# Altium footprint library PCB1.PcbLib: 24 footprints (part 1 of 2)
Each footprint in its own frame and in the unit in brackets; x right, y up, seen from the top. Pads: shape width x height; smd on the part's side, far side on the other; paste and mask are expansions set on the pad; w line width, h text height; cw(c..) or ccw(c..) is an arc to the next point about the centre after c.
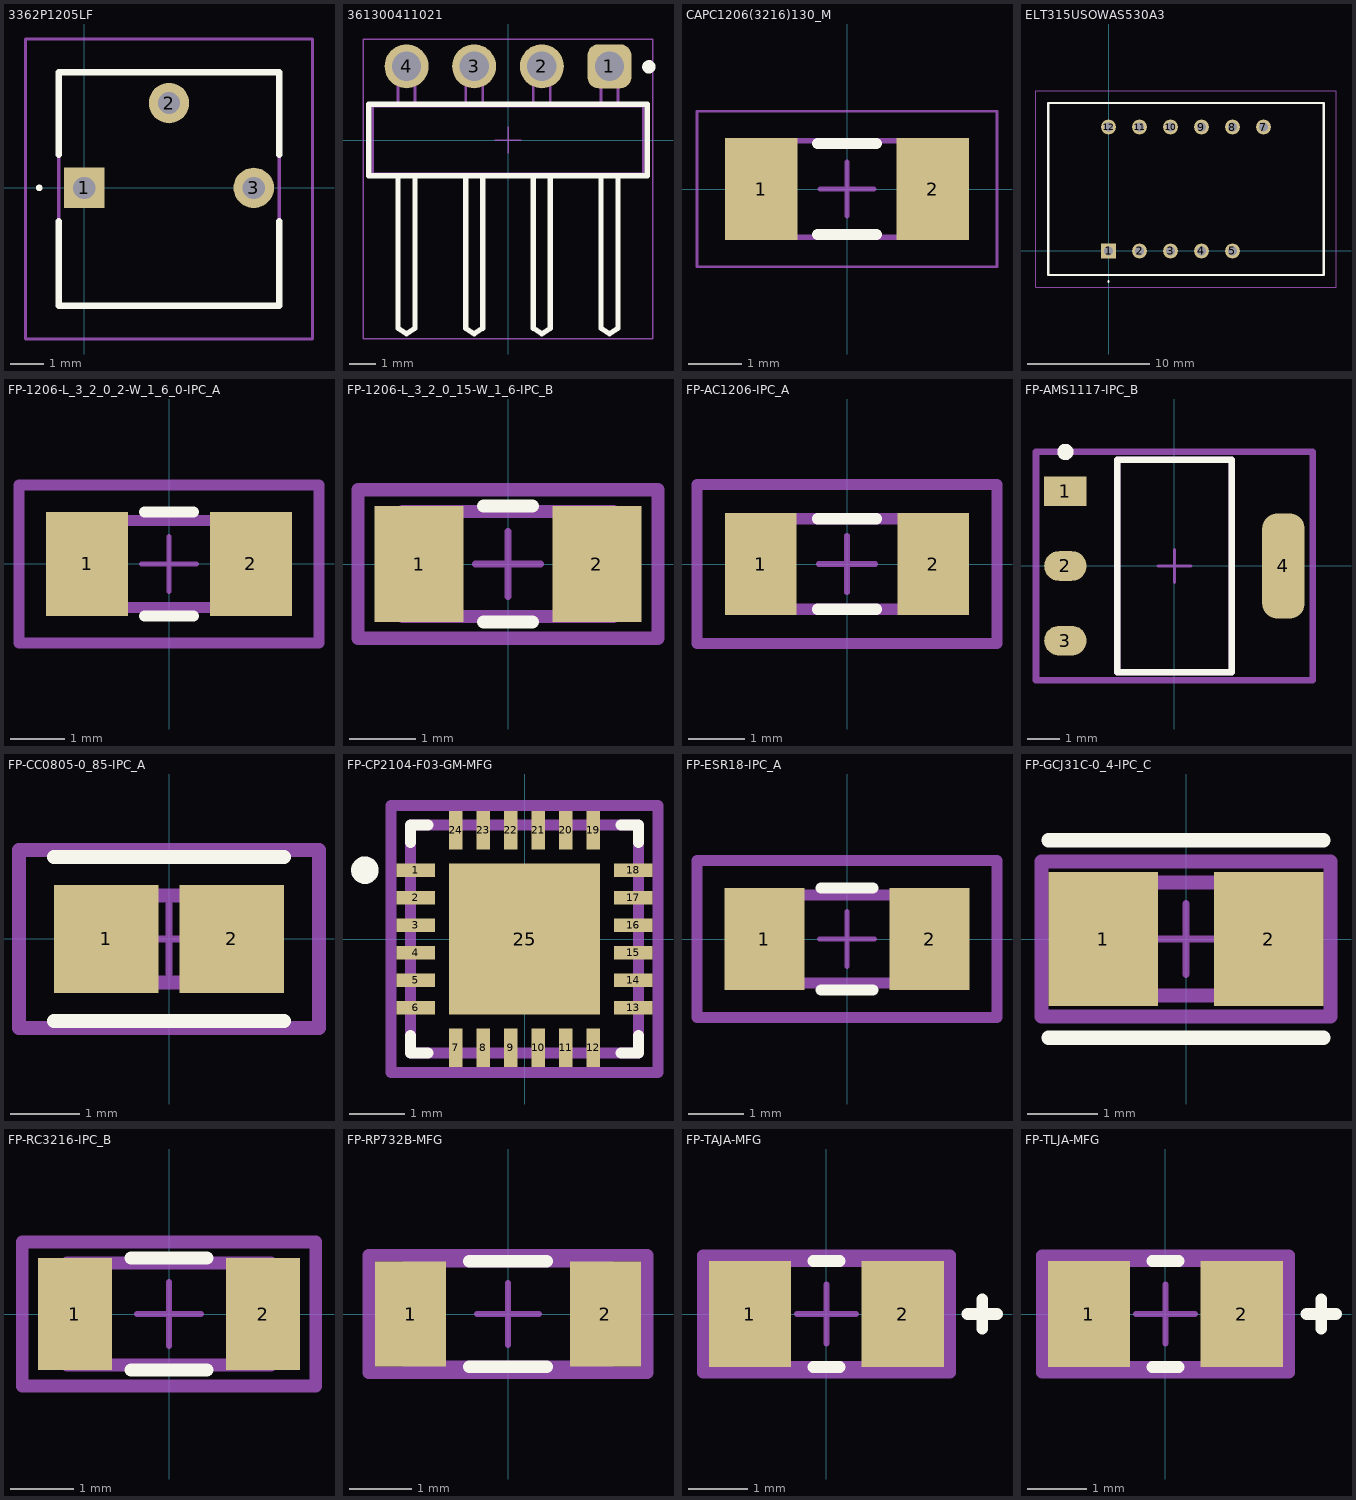
[diagram p0: the footprints below, top view; thin cyan lines are the x and y axes]

## 3362P1205LF [mm]
pads (3):
  rect 1.21x1.21 hole 0.66: 1(0,0)
  round 1.21 hole 0.66: 2(2.54,2.54) 3(5.08,0)
Top Overlay:
  lines w0.1: -1.4,0 cw(c-1.35,0) -1.3,0 cw(c-1.35,0) -1.4,0
  lines w0.2: -0.76,-1 -0.76,-3.53 5.84,-3.53 5.84,-1 ; -0.76,1 -0.76,3.46 5.84,3.46 5.84,1
Top 3D Body:
  lines w0.1: -0.76,-3.53 5.84,-3.53 5.84,3.46 -0.76,3.46 -0.76,-3.53
Top Courtyard:
  lines w0.1: -1.76,-4.53 6.84,-4.53 6.84,4.46 -1.76,4.46 -1.76,-4.53
3D body "3362P-1-205LF.stp": height 4.65, standoff -5.51, extent -0.752,-3.535 5.852,3.45

## 361300411021 [mm] "Pin Header, pitch 2.54 mm, THT, Angled, single row, 4p"
height 2.54
pads (4):
  rrect50% 1.65x1.65 hole 1.1: 1(3.81,2.77)
  round 1.65 hole 1.1: 2(1.27,2.77) 3(-1.27,2.77) 4(-3.81,2.77)
Top Overlay:
  circle w0.25: c5.29,2.75 r0.125
  lines w0.2: -4.13,-1.345 -4.13,-7.07 -3.81,-7.27 -3.49,-7.07 -3.49,-1.345 ; -1.59,-1.345 -1.59,-7.07 -1.27,-7.27 -0.95,-7.07 -0.95,-1.345 ; 0.95,-1.345 0.95,-7.07 1.27,-7.27 1.59,-7.07 1.59,-1.345 ; 3.49,-1.345 3.49,-7.07 3.81,-7.27 4.13,-7.07 4.13,-1.345 ; -5.23,-1.345 -5.23,1.345 5.23,1.345 5.23,-1.345 -5.23,-1.345
Top Designator:
  text ".Designator" at -7.498,-0.5 h1.5
Top Component Outline:
  lines w0.1: -4.13,-1.27 -4.13,-7.07 -3.81,-7.27 -3.49,-7.07 -3.49,-1.27 ; -4.13,1.27 -4.13,3.09 -3.49,3.09 -3.49,1.27 ; -1.59,-1.27 -1.59,-7.07 -1.27,-7.27 -0.95,-7.07 -0.95,-1.27 ; -1.59,1.27 -1.59,3.09 -0.95,3.09 -0.95,1.27 ; 0.95,-1.27 0.95,-7.07 1.27,-7.27 1.59,-7.07 1.59,-1.27 ; 0.95,1.27 0.95,3.09 1.59,3.09 1.59,1.27 ; 3.49,-1.27 3.49,-7.07 3.81,-7.27 4.13,-7.07 4.13,-1.27 ; 3.49,1.27 3.49,3.09 4.13,3.09 4.13,1.27 ; -5.08,-1.27 5.08,-1.27 5.08,1.27 -5.08,1.27 -5.08,-1.27
Top Courtyard:
  lines w0.05: -5.43,-7.47 -5.43,3.795 5.43,3.795 5.43,-7.47 -5.43,-7.47
Top Component Center:
  lines w0.05: -0.5,0 0.5,0 ; 0,-0.5 0,0.5
3D body "61300411021.stp": height 2.58, standoff -2.96, extent -5.08,-7.27 5.08,3.09

## CAPC1206(3216)130_M [mm] "Chip Capacitor, Body 3.2x1.6mm, Height 1.3mm, IPC Low Density"
height 1.3
pads (2):
  rect 1.35x1.9 smd: 1(-1.6,0) 2(1.6,0)
Top Overlay:
  lines w0.2: -0.55,-0.85 0.55,-0.85 ; -0.55,0.85 0.55,0.85
Top 3D Body:
  lines w0.1: -1.7,-0.9 1.7,-0.9 1.7,0.9 -1.7,0.9 -1.7,-0.9
Top Courtyard:
  lines w0.05: -2.8,-1.45 2.8,-1.45 2.8,1.45 -2.8,1.45 -2.8,-1.45
  lines w0.1: -0.5,0 0.5,0 ; 0,-0.5 0,0.5
3D body: height 1.3, standoff 0, extent 1.2,-0.9 1.7,0.9
3D body: height 1.3, standoff 0, extent -1.7,-0.9 -1.2,0.9
3D body: height 1.3, standoff 0, extent -1.2,-0.9 1.2,0.9

## ELT315USOWAS530A3 [mm]
pads (11):
  rect 1.217x1.217 hole 0.71: 1(0,0)
  round 1.217 hole 0.71: 2(2.54,0) 3(5.08,0) 4(7.62,0) 5(10.16,0) 7(12.7,10.16) 8(10.16,10.16) 9(7.62,10.16) 10(5.08,10.16) 11(2.54,10.16) 12(0,10.16)
Top Overlay:
  lines w0.1: 0,-2.55 cw(c0,-2.5) 0,-2.45 cw(c0,-2.5) 0,-2.55
  lines w0.2: -4.95,-1.97 -4.95,12.13 17.65,12.13 17.65,-1.97 -4.95,-1.97
Top 3D Body:
  lines w0.1: -4.95,-1.97 -4.95,12.13 17.65,12.13 17.65,-1.97 -4.95,-1.97
Top Courtyard:
  lines w0.1: -5.95,-2.97 -5.95,13.13 18.65,13.13 18.65,-2.97 -5.95,-2.97
3D body "ELT-315USOWA_S530-A3.stp": height 7.55, standoff -5, extent -4.95,-1.97 17.65,12.13

## FP-1206-L_3_2_0_2-W_1_6_0-IPC_A [mm]
pads (2):
  rect 1.505x1.906 smd paste+0 mask+0: 1(-1.501,0) 2(1.501,0)
Top Overlay:
  lines w0.2: -0.448,-0.953 0.448,-0.953 ; -0.448,0.953 0.448,0.953
Top Assembly:
  lines w0.2: -2.753,-1.453 2.753,-1.453 2.753,1.453 -2.753,1.453 -2.753,-1.453
  text ".Designator" at 0,0.188 h1
Top 3D Body:
  lines w0.2: -1.6,-0.8 1.6,-0.8 1.6,0.8 -1.6,0.8 -1.6,-0.8
Top Courtyard:
  lines w0.2: -2.753,-1.453 2.753,-1.453 2.753,1.453 -2.753,1.453 -2.753,-1.453
Top Component Center:
  lines w0.1: -0.5,0 0.5,0 ; 0,-0.5 0,0.5
3D body "Cap_AVX_12065C104KAT2A_eec.STEP": height 0.25, standoff 0, extent -2.753,-1.453 2.753,1.453

## FP-1206-L_3_2_0_15-W_1_6-IPC_B [mm]
pads (2):
  rect 1.355x1.758 smd paste+0 mask+0: 1(-1.351,0) 2(1.351,0)
Top Overlay:
  lines w0.2: -0.374,-0.879 0.374,-0.879 ; -0.374,0.879 0.374,0.879
Top Assembly:
  lines w0.2: -2.279,-1.129 -2.279,1.129 2.279,1.129 2.279,-1.129 -2.279,-1.129
  text ".Designator" at 0,0.188 h1
Top 3D Body:
  lines w0.2: -1.6,-0.8 -1.6,0.8 1.6,0.8 1.6,-0.8 -1.6,-0.8
Top Courtyard:
  lines w0.2: -2.279,-1.129 -2.279,1.129 2.279,1.129 2.279,-1.129 -2.279,-1.129
Top Component Center:
  lines w0.1: -0.5,0 0.5,0 ; 0,-0.5 0,0.5
3D body "Cap_Taiyo_Yuden_TMF316B7104KLHT_eec.STEP": height 0.25, standoff 0, extent -2.279,-1.129 2.279,1.129

## FP-AC1206-IPC_A [mm]
pads (2):
  rect 1.258x1.812 smd paste+0 mask+0: 1(-1.527,0) 2(1.527,0)
Top Overlay:
  lines w0.2: -0.523,-0.8 0.523,-0.8 ; -0.523,0.8 0.523,0.8
Top Assembly:
  lines w0.2: -2.656,-1.406 -2.656,1.406 2.656,1.406 2.656,-1.406 -2.656,-1.406
  text ".Designator" at 0,0.188 h1
Top 3D Body:
  lines w0.2: -1.55,-0.8 -1.55,0.8 1.55,0.8 1.55,-0.8 -1.55,-0.8
Top Courtyard:
  lines w0.2: -2.656,-1.406 -2.656,1.406 2.656,1.406 2.656,-1.406 -2.656,-1.406
Top Component Center:
  lines w0.1: -0.5,0 0.5,0 ; 0,-0.5 0,0.5
3D body "Res_Yageo_AC1206JR-07390RL_eec.STEP": height 0.65, standoff 0, extent -1.55,-0.8 1.55,0.8

## FP-AMS1117-IPC_B [mm]
pads (4):
  rect 1.304x0.912 smd paste+0 mask+0: 1(-3.345,2.29)
  rrect100% 1.304x0.912 smd paste+0 mask+0: 2(-3.345,0) 3(-3.345,-2.29)
  rrect70% 1.304x3.222 smd paste+0 mask+0: 4(3.345,0)
Top Overlay:
  circle w0.25: c-3.345,3.5 r0.125
  lines w0.2: -1.753,-3.253 -1.753,3.253 1.753,3.253 1.753,-3.253 -1.753,-3.253
Top Assembly:
  lines w0.2: -4.247,-3.502 -4.247,3.502 4.247,3.502 4.247,-3.502 -4.247,-3.502
  text ".Designator" at 0,0.188 h1
Top 3D Body:
  lines w0.2: -1.753,-3.253 -1.753,3.253 1.753,3.253 1.753,-3.253 -1.753,-3.253
Top Courtyard:
  lines w0.2: -4.247,-3.502 -4.247,3.502 4.247,3.502 4.247,-3.502 -4.247,-3.502
Top Component Center:
  lines w0.1: -0.5,0 0.5,0 ; 0,-0.5 0,0.5
3D body "IC_Advanced_Monolithic_Systems_AMS1117-3_3_eec.STEP": height 0.25, standoff 0, extent -4.247,-3.502 4.247,3.502

## FP-CC0805-0_85-IPC_A [mm]
pads (2):
  rect 1.505x1.556 smd paste+0 mask+0: 1(-0.901,0) 2(0.901,0)
Top Overlay:
  lines w0.2: -1.653,-1.178 1.653,-1.178 ; -1.653,1.178 1.653,1.178
Top Assembly:
  lines w0.2: -2.153,-1.278 2.153,-1.278 2.153,1.278 -2.153,1.278 -2.153,-1.278
  text ".Designator" at 0,0.188 h1
Top 3D Body:
  lines w0.2: -1,-0.625 1,-0.625 1,0.625 -1,0.625 -1,-0.625
Top Courtyard:
  lines w0.2: -2.153,-1.278 2.153,-1.278 2.153,1.278 -2.153,1.278 -2.153,-1.278
Top Component Center:
  lines w0.1: -0.5,0 0.5,0 ; 0,-0.5 0,0.5
3D body "Cap_Yageo_CC0805KKX7R7BB105_eec.STEP": height 0.25, standoff 0, extent -2.153,-1.278 2.153,1.278

## FP-CP2104-F03-GM-MFG [mm]
pads (25):
  rect 0.7x0.25 smd paste+0 mask+0: 1(-1.975,1.25) 2(-1.975,0.75) 3(-1.975,0.25) 4(-1.975,-0.25) 5(-1.975,-0.75) 6(-1.975,-1.25) 13(1.975,-1.25) 14(1.975,-0.75) 15(1.975,-0.25) 16(1.975,0.25) 17(1.975,0.75) 18(1.975,1.25)
  rect 0.25x0.7 smd paste+0 mask+0: 7(-1.25,-1.975) 8(-0.75,-1.975) 9(-0.25,-1.975) 10(0.25,-1.975) 11(0.75,-1.975) 12(1.25,-1.975) 19(1.25,1.975) 20(0.75,1.975) 21(0.25,1.975) 22(-0.25,1.975) 23(-0.75,1.975) 24(-1.25,1.975)
  rect 2.75x2.75 smd paste-1000 mask+0: 25(0,0)
Top Overlay:
  circle w0.25: c-2.9,1.25 r0.125
  lines w0.2: -2.075,-1.75 -2.075,-2.075 -1.75,-2.075 ; -2.075,1.75 -2.075,2.075 -1.75,2.075 ; 1.75,-2.075 2.075,-2.075 2.075,-1.75 ; 1.75,2.075 2.075,2.075 2.075,1.75
Top Paste:
  rectangle: 0.1,-1.2 1.2,-0.1
  rectangle: -1.2,-1.2 -0.1,-0.1
  rectangle: 0.1,0.1 1.2,1.2
  rectangle: -1.2,0.1 -0.1,1.2
Top Assembly:
  lines w0.2: -2.425,-2.425 -2.425,2.425 2.425,2.425 2.425,-2.425 -2.425,-2.425
  text ".Designator" at 0,0.188 h1
Top 3D Body:
  lines w0.2: -2.075,-2.075 -2.075,2.075 2.075,2.075 2.075,-2.075 -2.075,-2.075
Top Courtyard:
  lines w0.2: -2.425,-2.425 -2.425,2.425 2.425,2.425 2.425,-2.425 -2.425,-2.425
Top Component Center:
  lines w0.1: -0.5,0 0.5,0 ; 0,-0.5 0,0.5
3D body "IC_Silicon_Labs_CP2104-F03-GM_eec.STEP": height 0.25, standoff 0, extent -2.425,-2.425 2.425,2.425

## FP-ESR18-IPC_A [mm]
pads (2):
  rect 1.456x1.858 smd paste+0 mask+0: 1(-1.501,0) 2(1.501,0)
Top Overlay:
  lines w0.2: -0.473,-0.929 0.473,-0.929 ; -0.473,0.929 0.473,0.929
Top Assembly:
  lines w0.2: -2.729,-1.429 -2.729,1.429 2.729,1.429 2.729,-1.429 -2.729,-1.429
  text ".Designator" at 0,0.188 h1
Top 3D Body:
  lines w0.2: -1.6,-0.8 -1.6,0.8 1.6,0.8 1.6,-0.8 -1.6,-0.8
Top Courtyard:
  lines w0.2: -2.729,-1.429 -2.729,1.429 2.729,1.429 2.729,-1.429 -2.729,-1.429
Top Component Center:
  lines w0.1: -0.5,0 0.5,0 ; 0,-0.5 0,0.5
3D body "Res_Rohm_ESR18EZPJ333_eec.STEP": height 0.65, standoff 0, extent -1.6,-0.8 1.6,0.8

## FP-GCJ31C-0_4-IPC_C [mm]
pads (2):
  rect 1.553x1.903 smd paste+0 mask+0: 1(-1.175,0) 2(1.175,0)
Top Overlay:
  lines w0.2: -1.952,-1.4 1.952,-1.4 ; -1.952,1.4 1.952,1.4
Top Assembly:
  lines w0.2: -2.052,-1.1 2.052,-1.1 2.052,1.1 -2.052,1.1 -2.052,-1.1
  text ".Designator" at 0,0.188 h1
Top 3D Body:
  lines w0.2: -1.6,-0.8 1.6,-0.8 1.6,0.8 -1.6,0.8 -1.6,-0.8
Top Courtyard:
  lines w0.2: -2.052,-1.1 2.052,-1.1 2.052,1.1 -2.052,1.1 -2.052,-1.1
Top Component Center:
  lines w0.1: -0.5,0 0.5,0 ; 0,-0.5 0,0.5
3D body "Cap_Murata_GCJ31CC71E106MA15L_eec.STEP": height 2, standoff 0, extent -1.6,-0.8 1.6,0.8

## FP-RC3216-IPC_B [mm]
pads (2):
  rect 1.155x1.758 smd paste+0 mask+0: 1(-1.476,0) 2(1.476,0)
Top Overlay:
  lines w0.2: -0.598,-0.879 0.598,-0.879 ; -0.598,0.879 0.598,0.879
Top Assembly:
  lines w0.2: -2.303,-1.129 2.303,-1.129 2.303,1.129 -2.303,1.129 -2.303,-1.129
  text ".Designator" at 0,0.188 h1
Top 3D Body:
  lines w0.2: -1.6,-0.8 1.6,-0.8 1.6,0.8 -1.6,0.8 -1.6,-0.8
Top Courtyard:
  lines w0.2: -2.303,-1.129 2.303,-1.129 2.303,1.129 -2.303,1.129 -2.303,-1.129
Top Component Center:
  lines w0.1: -0.5,0 0.5,0 ; 0,-0.5 0,0.5
3D body "Res_Samsung_RC3216F111CS_eec.STEP": height 0.25, standoff 0, extent -2.303,-1.129 2.303,1.129

## FP-RP732B-MFG [mm]
pads (2):
  rect 1.15x1.7 smd paste+0 mask+0: 1(-1.575,0) 2(1.575,0)
Top Overlay:
  lines w0.2: -0.625,-0.85 0.625,-0.85 ; -0.625,0.85 0.625,0.85
Top Assembly:
  lines w0.2: -2.25,-0.95 2.25,-0.95 2.25,0.95 -2.25,0.95 -2.25,-0.95
  text ".Designator" at 0,0.188 h1
Top 3D Body:
  lines w0.2: -1.6,-0.85 1.6,-0.85 1.6,0.85 -1.6,0.85 -1.6,-0.85
Top Courtyard:
  lines w0.2: -2.25,-0.95 2.25,-0.95 2.25,0.95 -2.25,0.95 -2.25,-0.95
Top Component Center:
  lines w0.1: -0.5,0 0.5,0 ; 0,-0.5 0,0.5
3D body "Res_TE_Connectivity_RP73D2B30K9BTDF_eec.STEP": height 0.65, standoff 0, extent -1.525,-0.775 1.525,0.775

## FP-TAJA-MFG [mm]
pads (2):
  rect 1.4x1.8 smd paste+0 mask+0: 1(-1.3,0) 2(1.3,0)
Top Overlay:
  lines w0.2: -0.225,-0.9 0.225,-0.9 ; -0.225,0.9 0.225,0.9 ; 2.4,0 2.9,0 ; 2.65,-0.25 2.65,0.25
Top Assembly:
  lines w0.2: -2.1,-1 -2.1,1 2.1,1 2.1,-1 -2.1,-1
  text ".Designator" at 0,-0.001 h1
Top 3D Body:
  lines w0.2: -1.7,-0.9 -1.7,0.9 1.7,0.9 1.7,-0.9 -1.7,-0.9
Top Courtyard:
  lines w0.2: -2.1,-1 -2.1,1 2.1,1 2.1,-1 -2.1,-1
Top Component Center:
  lines w0.1: -0.5,0 0.5,0 ; 0,-0.5 0,0.5
3D body "Cap_AVX_TAJA476K002RNJ_eec.STEP": height 0.25, standoff 0, extent -2.1,-1 2.1,1

## FP-TLJA-MFG [mm]
pads (2):
  rect 1.4x1.8 smd paste+0 mask+0: 1(-1.3,0) 2(1.3,0)
Top Overlay:
  lines w0.2: -0.225,-0.9 0.225,-0.9 ; -0.225,0.9 0.225,0.9 ; 2.4,0 2.9,0 ; 2.65,-0.25 2.65,0.25
Top Assembly:
  lines w0.2: -2.1,-1 -2.1,1 2.1,1 2.1,-1 -2.1,-1
  text ".Designator" at 0,-0.001 h1
Top 3D Body:
  lines w0.2: -1.7,-0.9 -1.7,0.9 1.7,0.9 1.7,-0.9 -1.7,-0.9
Top Courtyard:
  lines w0.2: -2.1,-1 -2.1,1 2.1,1 2.1,-1 -2.1,-1
Top Component Center:
  lines w0.1: -0.5,0 0.5,0 ; 0,-0.5 0,0.5
3D body "Cap_AVX_Corporation_TLJA107M010R1400_eec.STEP": height 0.25, standoff 0, extent -2.1,-1 2.1,1